# EAGLE library part BREAKOUT (library DASHBOARD)
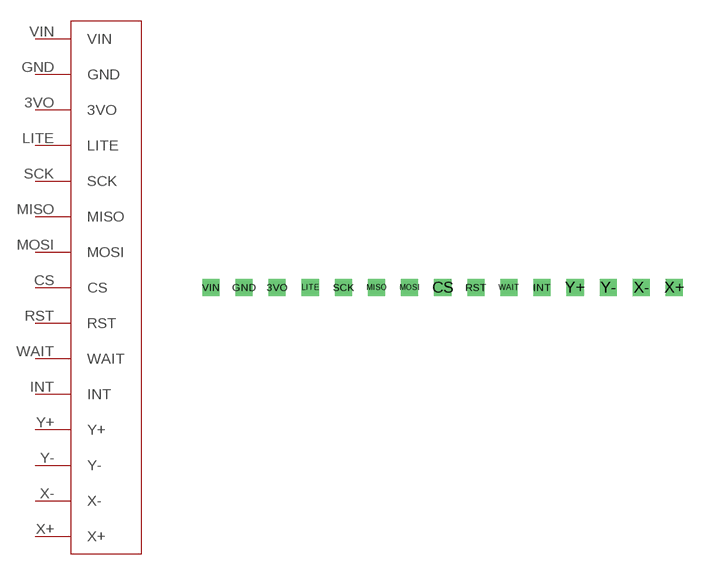
[diagram p0: symbol with the pads of BREAKOUT; footprint BREAKOUT]

Designator prefix -

## BREAKOUT  [BREAKOUT]
3VO  3VO
CS  CS
GND  GND
INT  INT
LITE  LITE
MISO  MISO
MOSI  MOSI
RST  RST
SCK  SCK
VIN  VIN
WAIT  WAIT
X+  X+
X-  X-
Y+  Y+
Y-  Y-

## Footprint BREAKOUT (pad centres in mm)
drill 0.8 square: 3VO 5.08,0; CS 17.78,0; GND 2.54,0; INT 25.4,0; LITE 7.62,0; MISO 12.7,0; MOSI 15.24,0; RST 20.32,0; SCK 10.16,0; VIN 0,0; WAIT 22.86,0; X+ 35.56,0; X- 33.02,0; Y+ 27.94,0; Y- 30.48,0